# Altium integrated library ALTIUM-WP-PLUG_DIRECT_PLUG-rev17a.IntLib: 1 symbol
Pins are listed as number, name and electrical type; pins without a type are passive.

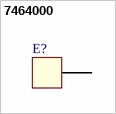
[diagram p0: symbol 7464000]

## 7464000
designator E?
REDCUBE Direct Plug Terminal WP-PLUG; Part Number: 7464000; Pin Number: 12 p; Rated Current: 120 A; ComponentLink1Description: Manufacturer; ComponentLink1URL: http://www.we-online.de; ComponentLink2Description: Datasheet; ComponentLink2URL: http://katalog.we-online.de/em/datasheet/7464000.pdf; Published Date: Feb. 2017; Publisher: Wurth Elektronik
footprint 7464000_for chemical surfaces (Direct Plug Terminal, 12pins)
footprint 7464000_for HAL (Direct Plug Terminal, 12pins)
pins: 1